# Altium integrated library Linear Technology PMIC-Switching Reg LTC1174-LTC3901.IntLib: 2647 symbols (part 227 of 310)
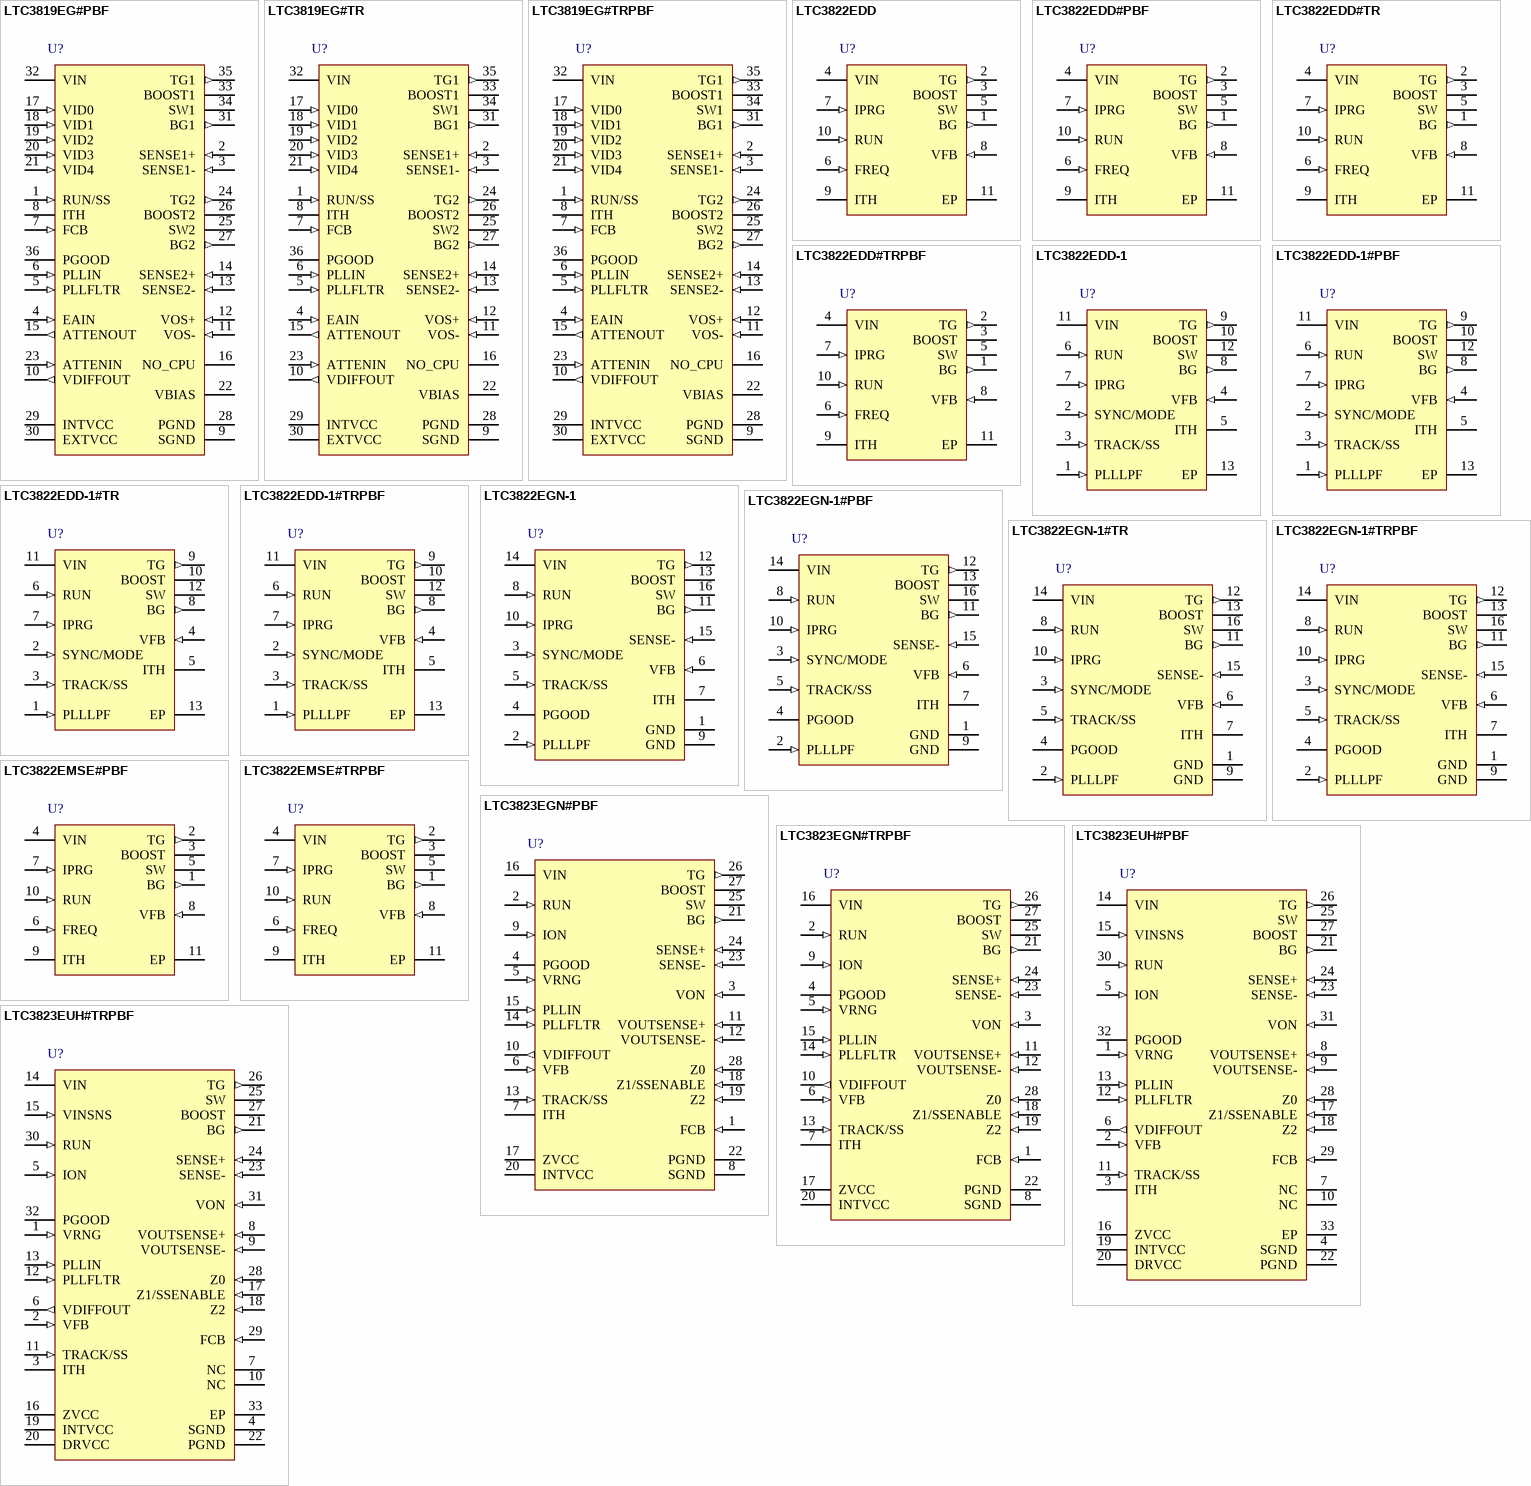
[diagram p249: symbols LTC3819EG#PBF to LTC3823EUH#TRPBF]

## LTC3819EG#TR
designator U?
2-Phase, High Efficiency, Step-Down Controller for Sun Server CPUs, 36-pin SOP (G-36), -40 to 85 degC, Tape and Reel; Manufacturer: Linear Technology; PartNumber: LTC3819EG#TR; Number of Outputs: 1; PackageReference: G-36; PackageDescription: 36-Pin Plastic SSOP, Body 12.8 x 5.3 mm, Pitch 0.65 mm; RoHS: FALSE
footprint LT-G-36_N (SOP, 36-Leads, Body 13.1x5.6mm, Pitch 0.65mm, IPC Medium Density)
footprint LT-G-36_L (SOP, 36-Leads, Body 13.1x5.6mm, Pitch 0.65mm, IPC High Density)
footprint LT-G-36_M (SOP, 36-Leads, Body 13.1x5.6mm, Pitch 0.65mm, IPC Low Density)
pins: 1 RUN/SS (in) "Combination of Soft-Start, Run Control Input and Short-Circuit Detection Timer. A capacitor to ground at this pin sets the ramp time to full current output. Forcing this pin below 0.8V causes the IC to shut down all internal (See Datasheet)", 2 SENSE1+ (in) "The (+) Input to Each Differential Current Comparator. The ITH pin voltage and built-in offsets between SENSE-  and SENSE+  pins in conjunction with RSENSE set the current trip threshold.", 3 SENSE1- (in) "The (-) Input to the Differential Current Comparators.", 4 EAIN (in) "Input to the error amplifier that compares the feedback voltage to the internal 0.6V reference voltage. This pin is normally connected to a resistive divider from the output of the differential amplifier (DIFFOUT).", 5 PLLFLTR (in) "The phase-locked loop’s lowpass filter is tied to this pin. Alternatively, this pin can be driven with an AC or DC voltage source to vary the frequency of the internal oscillator. Do not apply voltage to this pin prior t(See Datasheet)", 6 PLLIN (in) "External Synchronization Input to Phase Detector. This pin is internally terminated to SGND with 50k ohm. The phase-locked loop will force the rising top gate signal of controller 1 to be synchronized with the rising edge of (See Datasheet)", 7 FCB (in) "Forced Continuous Control Input. This input acts on both output stages. Pulling this pin below 0.6V will force continuous synchronous operation. Do not leave this pin floating without a decoupling capacitor.", 8 ITH "Error Amplifier Output and Switching Regulator Compensation Point. Both current comparator’s thresholds increase with this control voltage. The normal voltage range of this pin is from 0V to 2.4V", 9 SGND (power) "Signal Ground. This pin is common to both controllers. Route separately to the PGND pin.", 10 VDIFFOUT (out) "Output of a Differential Amplifier. This pin provides true remote output voltage sensing. VDIFFOUT normally drives an external resistive divider that sets the output voltage.", 11 VOS- (in) "Inputs toan Operational Amplifier. Internal precision resistors configure it as a differential amplifier whose output is VDIFFOUT.", 12 VOS+ (in) "Inputs toan Operational Amplifier. Internal precision resistors configure it as a differential amplifier whose output is VDIFFOUT.", 13 SENSE2- (in) "The (-) Input to the Differential Current Comparators.", 14 SENSE2+ (in) "The (+) Input to Each Differential Current Comparator. The ITH pin voltage and built-in offsets between SENSE-  and SENSE+  pins in conjunction with RSENSE set the current trip threshold.", 15 ATTENOUT (out) "Voltage Feedback Signal Resistively Divided According to the VID Programming Code.", 16 NO_CPU (oc) "Open-Drain Logic Output. NO_CPU is pulled to ground if VID0 to VID3 are all high.", 17 VID0 (in) "VID Control Logic Input Pins.", 18 VID1 (in) "VID Control Logic Input Pins.", 19 VID2 (in) "VID Control Logic Input Pins.", 20 VID3 (in) "VID Control Logic Input Pins.", 21 VID4 (in) "VID Control Logic Input Pins.", 22 VBIAS (power) "Supply Pin for the VID Control Circuit.", 23 ATTENIN (in) "The Input to the VID Controlled Resistive Divider.", 24 TG2 (out), 25 SW2 "Switch Node Connections to Inductors. Voltage swing at these pins is from a Schottky diode (external) voltage drop below ground to VIN.", 26 BOOST2 "Bootstrapped Supplies to the Topside Floating Drivers. External capacitors are connected between the BOOST and SW pins, and Schottky diodes are connected between the BOOST and INTVCC pins.", 27 BG2 (out) "High Current Gate Drives for Bottom N-Channel MOSFETS. Voltage swing at these pins is from ground to INTVCC.", 28 PGND (power) "Driver Power Ground. Connect to sources of bottom N-channel MOSFETS and the (-) terminals of CIN.", 29 INTVCC (power) "Output of the Internal 5V Linear Low Dropout Regulator and the EXTVCC Switch. The driver and control circuits are powered from this voltage source. Decouple to power ground with a 1uF ceramic capacitor placed directly (See Datasheet)", 30 EXTVCC (power) "External Power Input to an Internal Switch. This switch closes and supplies INTVCC, bypassing the internallow dropout regulator whenever EXTVCC is higher than 4.7V. See EXTVCC Connection in the Applications Information (See Datasheet)", 31 BG1 (out) "High Current Gate Drives for Bottom N-Channel MOSFETS. Voltage swing at these pins is from ground to INTVCC.", 32 VIN (power) "Main Supply Pin. Should be closely decoupled to the IC’s signal ground pin.", 33 BOOST1 "Bootstrapped Supplies to the Topside Floating Drivers. External capacitors are connected between the BOOST and SW pins, and Schottky diodes are connected between the BOOST and INTVCC pins.", 34 SW1 "Switch Node Connections to Inductors. Voltage swing at these pins is from a Schottky diode (external) voltage drop below ground to VIN.", 35 TG1 (out), 36 PGOOD (oc) "Open-Drain Logic Output. PGOOD is pulled to ground when the voltage on the EAIN pin is not within +/-10% of its set point."

## LTC3819EG#TRPBF
designator U?
2-Phase, High Efficiency, Step-Down Controller for Sun Server CPUs, 36-pin SOP (G-36), -40 to 85 degC, Pb-Free, Tape and Reel; Manufacturer: Linear Technology; PartNumber: LTC3819EG#TRPBF; Number of Outputs: 1; PackageReference: G-36; PackageDescription: 36-Pin Plastic SSOP, Body 12.8 x 5.3 mm, Pitch 0.65 mm; Supplier 1: Digi-Key; Supplier Part Number 1: LTC3819EG#TRPBF-ND; RoHS: TRUE
footprint LT-G-36_N (SOP, 36-Leads, Body 13.1x5.6mm, Pitch 0.65mm, IPC Medium Density)
footprint LT-G-36_L (SOP, 36-Leads, Body 13.1x5.6mm, Pitch 0.65mm, IPC High Density)
footprint LT-G-36_M (SOP, 36-Leads, Body 13.1x5.6mm, Pitch 0.65mm, IPC Low Density)
pins: 1 RUN/SS (in) "Combination of Soft-Start, Run Control Input and Short-Circuit Detection Timer. A capacitor to ground at this pin sets the ramp time to full current output. Forcing this pin below 0.8V causes the IC to shut down all internal (See Datasheet)", 2 SENSE1+ (in) "The (+) Input to Each Differential Current Comparator. The ITH pin voltage and built-in offsets between SENSE-  and SENSE+  pins in conjunction with RSENSE set the current trip threshold.", 3 SENSE1- (in) "The (-) Input to the Differential Current Comparators.", 4 EAIN (in) "Input to the error amplifier that compares the feedback voltage to the internal 0.6V reference voltage. This pin is normally connected to a resistive divider from the output of the differential amplifier (DIFFOUT).", 5 PLLFLTR (in) "The phase-locked loop’s lowpass filter is tied to this pin. Alternatively, this pin can be driven with an AC or DC voltage source to vary the frequency of the internal oscillator. Do not apply voltage to this pin prior t(See Datasheet)", 6 PLLIN (in) "External Synchronization Input to Phase Detector. This pin is internally terminated to SGND with 50k ohm. The phase-locked loop will force the rising top gate signal of controller 1 to be synchronized with the rising edge of (See Datasheet)", 7 FCB (in) "Forced Continuous Control Input. This input acts on both output stages. Pulling this pin below 0.6V will force continuous synchronous operation. Do not leave this pin floating without a decoupling capacitor.", 8 ITH "Error Amplifier Output and Switching Regulator Compensation Point. Both current comparator’s thresholds increase with this control voltage. The normal voltage range of this pin is from 0V to 2.4V", 9 SGND (power) "Signal Ground. This pin is common to both controllers. Route separately to the PGND pin.", 10 VDIFFOUT (out) "Output of a Differential Amplifier. This pin provides true remote output voltage sensing. VDIFFOUT normally drives an external resistive divider that sets the output voltage.", 11 VOS- (in) "Inputs toan Operational Amplifier. Internal precision resistors configure it as a differential amplifier whose output is VDIFFOUT.", 12 VOS+ (in) "Inputs toan Operational Amplifier. Internal precision resistors configure it as a differential amplifier whose output is VDIFFOUT.", 13 SENSE2- (in) "The (-) Input to the Differential Current Comparators.", 14 SENSE2+ (in) "The (+) Input to Each Differential Current Comparator. The ITH pin voltage and built-in offsets between SENSE-  and SENSE+  pins in conjunction with RSENSE set the current trip threshold.", 15 ATTENOUT (out) "Voltage Feedback Signal Resistively Divided According to the VID Programming Code.", 16 NO_CPU (oc) "Open-Drain Logic Output. NO_CPU is pulled to ground if VID0 to VID3 are all high.", 17 VID0 (in) "VID Control Logic Input Pins.", 18 VID1 (in) "VID Control Logic Input Pins.", 19 VID2 (in) "VID Control Logic Input Pins.", 20 VID3 (in) "VID Control Logic Input Pins.", 21 VID4 (in) "VID Control Logic Input Pins.", 22 VBIAS (power) "Supply Pin for the VID Control Circuit.", 23 ATTENIN (in) "The Input to the VID Controlled Resistive Divider.", 24 TG2 (out), 25 SW2 "Switch Node Connections to Inductors. Voltage swing at these pins is from a Schottky diode (external) voltage drop below ground to VIN.", 26 BOOST2 "Bootstrapped Supplies to the Topside Floating Drivers. External capacitors are connected between the BOOST and SW pins, and Schottky diodes are connected between the BOOST and INTVCC pins.", 27 BG2 (out) "High Current Gate Drives for Bottom N-Channel MOSFETS. Voltage swing at these pins is from ground to INTVCC.", 28 PGND (power) "Driver Power Ground. Connect to sources of bottom N-channel MOSFETS and the (-) terminals of CIN.", 29 INTVCC (power) "Output of the Internal 5V Linear Low Dropout Regulator and the EXTVCC Switch. The driver and control circuits are powered from this voltage source. Decouple to power ground with a 1uF ceramic capacitor placed directly (See Datasheet)", 30 EXTVCC (power) "External Power Input to an Internal Switch. This switch closes and supplies INTVCC, bypassing the internallow dropout regulator whenever EXTVCC is higher than 4.7V. See EXTVCC Connection in the Applications Information (See Datasheet)", 31 BG1 (out) "High Current Gate Drives for Bottom N-Channel MOSFETS. Voltage swing at these pins is from ground to INTVCC.", 32 VIN (power) "Main Supply Pin. Should be closely decoupled to the IC’s signal ground pin.", 33 BOOST1 "Bootstrapped Supplies to the Topside Floating Drivers. External capacitors are connected between the BOOST and SW pins, and Schottky diodes are connected between the BOOST and INTVCC pins.", 34 SW1 "Switch Node Connections to Inductors. Voltage swing at these pins is from a Schottky diode (external) voltage drop below ground to VIN.", 35 TG1 (out), 36 PGOOD (oc) "Open-Drain Logic Output. PGOOD is pulled to ground when the voltage on the EAIN pin is not within +/-10% of its set point."

## LTC3822EDD
designator U?
No Rsense, Low Input Voltage, Synchronous Step-Down DC/DC Controller, 10-pin SON (DD-10), -40 to 85 degC; Manufacturer: Linear Technology; PartNumber: LTC3822EDD; Number of Outputs: 1; PackageReference: DD-10; PackageDescription: 10-Pin Plastic DFN, Body 3 x 3 mm, Pitch 0.5 mm; RoHS: FALSE; Code_JEDEC: MO-229
footprint LT-DD-10_V (SON, 10-Leads, Body 3x3mm, Pitch 0.5mm, Thermal Pad 2.38x1.65mm)
pins: 1 BG (out) "Bottom Gate Driver Output. This pin drives the gate of the external bottom MOSFET. This pin has an output swing from GND to BOOST.", 2 TG (out) "Top Gate Driver Output. This pin drives the gate of the external topside MOSFET. This pin has an output swing from GND to BOOST.", 3 BOOST "Positive Supply Pin for the Gate Driver Circuitry. A bootstrapped capacitor, charged through an external Schottky diode from VIN, is connected between the BOOST and SW pins. Voltage swing at the BOOST pin is from VIN to 2VIN.(See Datasheet)", 4 VIN (power) "This pin powers the control circuitry and serves as the positive input to the differential current comparator. Pin 4 must not be locally decoupled with a capacitor as it is also the positive terminal for current sense.", 5 SW "Switch Node Connection to Inductor. This pin is also the negative input to the differential current comparator and an input to the reverse current comparator. Normally this pin is connected to the source of the external (See Datasheet)", 6 FREQ (in) "This pin serves as the frequency select input. Tying this pin to GND selects 300kHz operation; tying this pin to VIN selects 750kHz operation. Floating this pin selects 550kHz operation.", 7 IPRG (in) "Selects maximum peak sense voltage between the VIN and SW pins (i.e., the maximum allowed drop across the external top-side MOSFET). Tie to VIN, GND or float to select 200mV, 82mV or 120mV respectively.", 8 VFB (in) "Feedback Pin. This pin receives the remotely sensed feedback voltage from an external resistor divider across the output.", 9 ITH "Current Threshold and Error Amplifier Compensation Point. Nominal operating range on this pin is from 0.7V to 2V. The voltage on this pin determines the threshold of the main current comparator.", 10 RUN (in) "Run Control Input. Forcing this pin below 1.1V shuts down the chip. Driving this pin to VIN or releasing this pin enables the chip to start-up with the internal soft-start", 11 EP (power) "Exposed Pad. The exposed pad is ground and must be soldered to the PCB ground for electrical contact and optimal thermal performance."

## LTC3822EDD#PBF
designator U?
No Rsense, Low Input Voltage, Synchronous Step-Down DC/DC Controller, 10-pin SON (DD-10), -40 to 85 degC, Pb-Free; Manufacturer: Linear Technology; PartNumber: LTC3822EDD#PBF; Number of Outputs: 1; PackageReference: DD-10; PackageDescription: 10-Pin Plastic DFN, Body 3 x 3 mm, Pitch 0.5 mm; Supplier 1: Digi-Key; Supplier Part Number 1: LTC3822EDD#PBF-ND; RoHS: TRUE; Code_JEDEC: MO-229
footprint LT-DD-10_V (SON, 10-Leads, Body 3x3mm, Pitch 0.5mm, Thermal Pad 2.38x1.65mm)
pins: 1 BG (out) "Bottom Gate Driver Output. This pin drives the gate of the external bottom MOSFET. This pin has an output swing from GND to BOOST.", 2 TG (out) "Top Gate Driver Output. This pin drives the gate of the external topside MOSFET. This pin has an output swing from GND to BOOST.", 3 BOOST "Positive Supply Pin for the Gate Driver Circuitry. A bootstrapped capacitor, charged through an external Schottky diode from VIN, is connected between the BOOST and SW pins. Voltage swing at the BOOST pin is from VIN to 2VIN.(See Datasheet)", 4 VIN (power) "This pin powers the control circuitry and serves as the positive input to the differential current comparator. Pin 4 must not be locally decoupled with a capacitor as it is also the positive terminal for current sense.", 5 SW "Switch Node Connection to Inductor. This pin is also the negative input to the differential current comparator and an input to the reverse current comparator. Normally this pin is connected to the source of the external (See Datasheet)", 6 FREQ (in) "This pin serves as the frequency select input. Tying this pin to GND selects 300kHz operation; tying this pin to VIN selects 750kHz operation. Floating this pin selects 550kHz operation.", 7 IPRG (in) "Selects maximum peak sense voltage between the VIN and SW pins (i.e., the maximum allowed drop across the external top-side MOSFET). Tie to VIN, GND or float to select 200mV, 82mV or 120mV respectively.", 8 VFB (in) "Feedback Pin. This pin receives the remotely sensed feedback voltage from an external resistor divider across the output.", 9 ITH "Current Threshold and Error Amplifier Compensation Point. Nominal operating range on this pin is from 0.7V to 2V. The voltage on this pin determines the threshold of the main current comparator.", 10 RUN (in) "Run Control Input. Forcing this pin below 1.1V shuts down the chip. Driving this pin to VIN or releasing this pin enables the chip to start-up with the internal soft-start", 11 EP (power) "Exposed Pad. The exposed pad is ground and must be soldered to the PCB ground for electrical contact and optimal thermal performance."

## LTC3822EDD#TR
designator U?
No Rsense, Low Input Voltage, Synchronous Step-Down DC/DC Controller, 10-pin SON (DD-10), -40 to 85 degC, Tape and Reel; Manufacturer: Linear Technology; PartNumber: LTC3822EDD#TR; Number of Outputs: 1; PackageReference: DD-10; PackageDescription: 10-Pin Plastic DFN, Body 3 x 3 mm, Pitch 0.5 mm; RoHS: FALSE; Code_JEDEC: MO-229
footprint LT-DD-10_V (SON, 10-Leads, Body 3x3mm, Pitch 0.5mm, Thermal Pad 2.38x1.65mm)
pins: 1 BG (out) "Bottom Gate Driver Output. This pin drives the gate of the external bottom MOSFET. This pin has an output swing from GND to BOOST.", 2 TG (out) "Top Gate Driver Output. This pin drives the gate of the external topside MOSFET. This pin has an output swing from GND to BOOST.", 3 BOOST "Positive Supply Pin for the Gate Driver Circuitry. A bootstrapped capacitor, charged through an external Schottky diode from VIN, is connected between the BOOST and SW pins. Voltage swing at the BOOST pin is from VIN to 2VIN.(See Datasheet)", 4 VIN (power) "This pin powers the control circuitry and serves as the positive input to the differential current comparator. Pin 4 must not be locally decoupled with a capacitor as it is also the positive terminal for current sense.", 5 SW "Switch Node Connection to Inductor. This pin is also the negative input to the differential current comparator and an input to the reverse current comparator. Normally this pin is connected to the source of the external (See Datasheet)", 6 FREQ (in) "This pin serves as the frequency select input. Tying this pin to GND selects 300kHz operation; tying this pin to VIN selects 750kHz operation. Floating this pin selects 550kHz operation.", 7 IPRG (in) "Selects maximum peak sense voltage between the VIN and SW pins (i.e., the maximum allowed drop across the external top-side MOSFET). Tie to VIN, GND or float to select 200mV, 82mV or 120mV respectively.", 8 VFB (in) "Feedback Pin. This pin receives the remotely sensed feedback voltage from an external resistor divider across the output.", 9 ITH "Current Threshold and Error Amplifier Compensation Point. Nominal operating range on this pin is from 0.7V to 2V. The voltage on this pin determines the threshold of the main current comparator.", 10 RUN (in) "Run Control Input. Forcing this pin below 1.1V shuts down the chip. Driving this pin to VIN or releasing this pin enables the chip to start-up with the internal soft-start", 11 EP (power) "Exposed Pad. The exposed pad is ground and must be soldered to the PCB ground for electrical contact and optimal thermal performance."

## LTC3822EDD#TRPBF
designator U?
No Rsense, Low Input Voltage, Synchronous Step-Down DC/DC Controller, 10-pin SON (DD-10), -40 to 85 degC, Pb-Free, Tape and Reel; Manufacturer: Linear Technology; PartNumber: LTC3822EDD#TRPBF; Number of Outputs: 1; PackageReference: DD-10; PackageDescription: 10-Pin Plastic DFN, Body 3 x 3 mm, Pitch 0.5 mm; Supplier 1: Digi-Key; Supplier Part Number 1: LTC3822EDD#TRPBF-ND; RoHS: TRUE; Code_JEDEC: MO-229
footprint LT-DD-10_V (SON, 10-Leads, Body 3x3mm, Pitch 0.5mm, Thermal Pad 2.38x1.65mm)
pins: 1 BG (out) "Bottom Gate Driver Output. This pin drives the gate of the external bottom MOSFET. This pin has an output swing from GND to BOOST.", 2 TG (out) "Top Gate Driver Output. This pin drives the gate of the external topside MOSFET. This pin has an output swing from GND to BOOST.", 3 BOOST "Positive Supply Pin for the Gate Driver Circuitry. A bootstrapped capacitor, charged through an external Schottky diode from VIN, is connected between the BOOST and SW pins. Voltage swing at the BOOST pin is from VIN to 2VIN.(See Datasheet)", 4 VIN (power) "This pin powers the control circuitry and serves as the positive input to the differential current comparator. Pin 4 must not be locally decoupled with a capacitor as it is also the positive terminal for current sense.", 5 SW "Switch Node Connection to Inductor. This pin is also the negative input to the differential current comparator and an input to the reverse current comparator. Normally this pin is connected to the source of the external (See Datasheet)", 6 FREQ (in) "This pin serves as the frequency select input. Tying this pin to GND selects 300kHz operation; tying this pin to VIN selects 750kHz operation. Floating this pin selects 550kHz operation.", 7 IPRG (in) "Selects maximum peak sense voltage between the VIN and SW pins (i.e., the maximum allowed drop across the external top-side MOSFET). Tie to VIN, GND or float to select 200mV, 82mV or 120mV respectively.", 8 VFB (in) "Feedback Pin. This pin receives the remotely sensed feedback voltage from an external resistor divider across the output.", 9 ITH "Current Threshold and Error Amplifier Compensation Point. Nominal operating range on this pin is from 0.7V to 2V. The voltage on this pin determines the threshold of the main current comparator.", 10 RUN (in) "Run Control Input. Forcing this pin below 1.1V shuts down the chip. Driving this pin to VIN or releasing this pin enables the chip to start-up with the internal soft-start", 11 EP (power) "Exposed Pad. The exposed pad is ground and must be soldered to the PCB ground for electrical contact and optimal thermal performance."

## LTC3822EDD-1
designator U?
No Rsense, Low Input Voltage, Synchronous Step-Down DC/DC Controller, 12-pin SON (DD-12), -40 to 85 degC; Manufacturer: Linear Technology; PartNumber: LTC3822EDD-1; Number of Outputs: 1; PackageReference: DD-12; PackageDescription: 12-Pin Plastic DFN, Body 3 x 3 mm, Pitch 0.45 mm; RoHS: FALSE
footprint LT-DD-12_V (SON, 12-Leads, Body 3x3mm, Pitch 0.45mm, Thermal Pad 2.38x1.65mm)
pins: 1 PLLLPF (in) "This pin serves as the frequency select input and PLL lowpass filter compensation point. When SYNC/MODE has a DC voltage on it, tying this pin to GND selects 300kHz operation; tying this pin to VIN selects 750kHz operation. (See Datasheet)", 2 SYNC/MODE (in) "This pin performs two functions:1) external clock synchronization input for phaselocked loop and 2) Burst Mode, pulse skipping or forced continuous mode select. Applying a clock with frequency between 250kHz and 750kHz (See Datasheet)", 3 TRACK/SS (in) "Tracking Input for the Controller or Optional External Soft-Start Input. This pin allows the start-up of VOUT to “track?the external voltage at this pin using an external resistor divider. The LTC3822-1 regulates (See Datasheet)", 4 VFB (in) "Feedback Pin. This pin receives the remotely sensed feedback voltage for the controller from an external resistor divider across the output.", 5 ITH "Current Threshold and Error Amplifier Compensation Point. Nominal operating range on this pin is from 0.7V to 2V. The voltage on this pin determines the threshold of the main current comparator.", 6 RUN (in) "Run Control Input. Forcing this pin below 1.1V shuts down the chip. Driving this pin to VIN or releasing this pin enables the chip to start-up.", 7 IPRG (in) "Three-State Pin to Select the Maximum Peak Sense Voltage Threshold. This pin selects the maximum allowed voltage drop between the VIN and SW pins (i.e., the maximum allowed drop across the external topside MOSFET). Tie to (See Datasheet)", 8 BG (out) "Bottom Gate Driver Output. This pin drives the gate of the external bottom-side MOSFET. This pin has an output swing from GND to BOOST.", 9 TG (out) "Top Gate Driver Output. This pin drives the gate of the external topside MOSFET. This pin has an output swing from GND to BOOST.", 10 BOOST "Positive Supply Pin for the Gate Driver Circuitry. A bootstrapped capacitor, charged with an external Schottky diode and a boost voltage source, is connected between the BOOST and SW pins. Voltage swing at the BOOST pin is (See Datasheet)", 11 VIN (power) "This pin powers the control circuitry and serves as the positive input to the differential current comparator.", 12 SW "Switch Node Connection to Inductor. This pin is also the negative input to the differential current comparator(DFN only) and an input to the reverse current comparator. Normally this pin is connected to the source of the (See Datasheet)", 13 EP (power) "Ground. The Exposed Pad is ground and must be soldered to the PCB ground for electrical contact and optimal thermal performance."

## LTC3822EDD-1#PBF
designator U?
No Rsense, Low Input Voltage, Synchronous Step-Down DC/DC Controller, 12-pin SON (DD-12), -40 to 85 degC, Pb-Free; Manufacturer: Linear Technology; PartNumber: LTC3822EDD-1#PBF; Number of Outputs: 1; PackageReference: DD-12; PackageDescription: 12-Pin Plastic DFN, Body 3 x 3 mm, Pitch 0.45 mm; Supplier 1: Digi-Key; Supplier Part Number 1: LTC3822EDD-1#PBF-ND; RoHS: TRUE
footprint LT-DD-12_V (SON, 12-Leads, Body 3x3mm, Pitch 0.45mm, Thermal Pad 2.38x1.65mm)
pins: 1 PLLLPF (in) "This pin serves as the frequency select input and PLL lowpass filter compensation point. When SYNC/MODE has a DC voltage on it, tying this pin to GND selects 300kHz operation; tying this pin to VIN selects 750kHz operation. (See Datasheet)", 2 SYNC/MODE (in) "This pin performs two functions:1) external clock synchronization input for phaselocked loop and 2) Burst Mode, pulse skipping or forced continuous mode select. Applying a clock with frequency between 250kHz and 750kHz (See Datasheet)", 3 TRACK/SS (in) "Tracking Input for the Controller or Optional External Soft-Start Input. This pin allows the start-up of VOUT to “track?the external voltage at this pin using an external resistor divider. The LTC3822-1 regulates (See Datasheet)", 4 VFB (in) "Feedback Pin. This pin receives the remotely sensed feedback voltage for the controller from an external resistor divider across the output.", 5 ITH "Current Threshold and Error Amplifier Compensation Point. Nominal operating range on this pin is from 0.7V to 2V. The voltage on this pin determines the threshold of the main current comparator.", 6 RUN (in) "Run Control Input. Forcing this pin below 1.1V shuts down the chip. Driving this pin to VIN or releasing this pin enables the chip to start-up.", 7 IPRG (in) "Three-State Pin to Select the Maximum Peak Sense Voltage Threshold. This pin selects the maximum allowed voltage drop between the VIN and SW pins (i.e., the maximum allowed drop across the external topside MOSFET). Tie to (See Datasheet)", 8 BG (out) "Bottom Gate Driver Output. This pin drives the gate of the external bottom-side MOSFET. This pin has an output swing from GND to BOOST.", 9 TG (out) "Top Gate Driver Output. This pin drives the gate of the external topside MOSFET. This pin has an output swing from GND to BOOST.", 10 BOOST "Positive Supply Pin for the Gate Driver Circuitry. A bootstrapped capacitor, charged with an external Schottky diode and a boost voltage source, is connected between the BOOST and SW pins. Voltage swing at the BOOST pin is (See Datasheet)", 11 VIN (power) "This pin powers the control circuitry and serves as the positive input to the differential current comparator.", 12 SW "Switch Node Connection to Inductor. This pin is also the negative input to the differential current comparator(DFN only) and an input to the reverse current comparator. Normally this pin is connected to the source of the (See Datasheet)", 13 EP (power) "Ground. The Exposed Pad is ground and must be soldered to the PCB ground for electrical contact and optimal thermal performance."

## LTC3822EDD-1#TR
designator U?
No Rsense, Low Input Voltage, Synchronous Step-Down DC/DC Controller, 12-pin SON (DD-12), -40 to 85 degC, Tape and Reel; Manufacturer: Linear Technology; PartNumber: LTC3822EDD-1#TR; Number of Outputs: 1; PackageReference: DD-12; PackageDescription: 12-Pin Plastic DFN, Body 3 x 3 mm, Pitch 0.45 mm; RoHS: FALSE
footprint LT-DD-12_V (SON, 12-Leads, Body 3x3mm, Pitch 0.45mm, Thermal Pad 2.38x1.65mm)
pins: 1 PLLLPF (in) "This pin serves as the frequency select input and PLL lowpass filter compensation point. When SYNC/MODE has a DC voltage on it, tying this pin to GND selects 300kHz operation; tying this pin to VIN selects 750kHz operation. (See Datasheet)", 2 SYNC/MODE (in) "This pin performs two functions:1) external clock synchronization input for phaselocked loop and 2) Burst Mode, pulse skipping or forced continuous mode select. Applying a clock with frequency between 250kHz and 750kHz (See Datasheet)", 3 TRACK/SS (in) "Tracking Input for the Controller or Optional External Soft-Start Input. This pin allows the start-up of VOUT to “track?the external voltage at this pin using an external resistor divider. The LTC3822-1 regulates (See Datasheet)", 4 VFB (in) "Feedback Pin. This pin receives the remotely sensed feedback voltage for the controller from an external resistor divider across the output.", 5 ITH "Current Threshold and Error Amplifier Compensation Point. Nominal operating range on this pin is from 0.7V to 2V. The voltage on this pin determines the threshold of the main current comparator.", 6 RUN (in) "Run Control Input. Forcing this pin below 1.1V shuts down the chip. Driving this pin to VIN or releasing this pin enables the chip to start-up.", 7 IPRG (in) "Three-State Pin to Select the Maximum Peak Sense Voltage Threshold. This pin selects the maximum allowed voltage drop between the VIN and SW pins (i.e., the maximum allowed drop across the external topside MOSFET). Tie to (See Datasheet)", 8 BG (out) "Bottom Gate Driver Output. This pin drives the gate of the external bottom-side MOSFET. This pin has an output swing from GND to BOOST.", 9 TG (out) "Top Gate Driver Output. This pin drives the gate of the external topside MOSFET. This pin has an output swing from GND to BOOST.", 10 BOOST "Positive Supply Pin for the Gate Driver Circuitry. A bootstrapped capacitor, charged with an external Schottky diode and a boost voltage source, is connected between the BOOST and SW pins. Voltage swing at the BOOST pin is (See Datasheet)", 11 VIN (power) "This pin powers the control circuitry and serves as the positive input to the differential current comparator.", 12 SW "Switch Node Connection to Inductor. This pin is also the negative input to the differential current comparator(DFN only) and an input to the reverse current comparator. Normally this pin is connected to the source of the (See Datasheet)", 13 EP (power) "Ground. The Exposed Pad is ground and must be soldered to the PCB ground for electrical contact and optimal thermal performance."

## LTC3822EDD-1#TRPBF
designator U?
No Rsense, Low Input Voltage, Synchronous Step-Down DC/DC Controller, 12-pin SON (DD-12), -40 to 85 degC, Pb-Free, Tape and Reel; Manufacturer: Linear Technology; PartNumber: LTC3822EDD-1#TRPBF; Number of Outputs: 1; PackageReference: DD-12; PackageDescription: 12-Pin Plastic DFN, Body 3 x 3 mm, Pitch 0.45 mm; Supplier 1: Digi-Key; Supplier Part Number 1: LTC3822EDD-1#TRPBF-ND; RoHS: TRUE
footprint LT-DD-12_V (SON, 12-Leads, Body 3x3mm, Pitch 0.45mm, Thermal Pad 2.38x1.65mm)
pins: 1 PLLLPF (in) "This pin serves as the frequency select input and PLL lowpass filter compensation point. When SYNC/MODE has a DC voltage on it, tying this pin to GND selects 300kHz operation; tying this pin to VIN selects 750kHz operation. (See Datasheet)", 2 SYNC/MODE (in) "This pin performs two functions:1) external clock synchronization input for phaselocked loop and 2) Burst Mode, pulse skipping or forced continuous mode select. Applying a clock with frequency between 250kHz and 750kHz (See Datasheet)", 3 TRACK/SS (in) "Tracking Input for the Controller or Optional External Soft-Start Input. This pin allows the start-up of VOUT to “track?the external voltage at this pin using an external resistor divider. The LTC3822-1 regulates (See Datasheet)", 4 VFB (in) "Feedback Pin. This pin receives the remotely sensed feedback voltage for the controller from an external resistor divider across the output.", 5 ITH "Current Threshold and Error Amplifier Compensation Point. Nominal operating range on this pin is from 0.7V to 2V. The voltage on this pin determines the threshold of the main current comparator.", 6 RUN (in) "Run Control Input. Forcing this pin below 1.1V shuts down the chip. Driving this pin to VIN or releasing this pin enables the chip to start-up.", 7 IPRG (in) "Three-State Pin to Select the Maximum Peak Sense Voltage Threshold. This pin selects the maximum allowed voltage drop between the VIN and SW pins (i.e., the maximum allowed drop across the external topside MOSFET). Tie to (See Datasheet)", 8 BG (out) "Bottom Gate Driver Output. This pin drives the gate of the external bottom-side MOSFET. This pin has an output swing from GND to BOOST.", 9 TG (out) "Top Gate Driver Output. This pin drives the gate of the external topside MOSFET. This pin has an output swing from GND to BOOST.", 10 BOOST "Positive Supply Pin for the Gate Driver Circuitry. A bootstrapped capacitor, charged with an external Schottky diode and a boost voltage source, is connected between the BOOST and SW pins. Voltage swing at the BOOST pin is (See Datasheet)", 11 VIN (power) "This pin powers the control circuitry and serves as the positive input to the differential current comparator.", 12 SW "Switch Node Connection to Inductor. This pin is also the negative input to the differential current comparator(DFN only) and an input to the reverse current comparator. Normally this pin is connected to the source of the (See Datasheet)", 13 EP (power) "Ground. The Exposed Pad is ground and must be soldered to the PCB ground for electrical contact and optimal thermal performance."

## LTC3822EGN-1
designator U?
No Rsense, Low Input Voltage, Synchronous Step-Down DC/DC Controller, 16-pin SOP (GN-16), -40 to 85 degC; Manufacturer: Linear Technology; PartNumber: LTC3822EGN-1; Number of Outputs: 1; PackageReference: GN-16; PackageDescription: 16-Pin Plastic SSOP, Body 4.9 x 3.9 mm, Pitch 0.635 mm; RoHS: FALSE
footprint LT-GN-16_N (SOP, 16-Leads, Body 5x4mm, Pitch 0.635mm, IPC Medium Density)
footprint LT-GN-16_L (SOP, 16-Leads, Body 5x4mm, Pitch 0.635mm, IPC High Density)
footprint LT-GN-16_M (SOP, 16-Leads, Body 5x4mm, Pitch 0.635mm, IPC Low Density)
pins: 1 GND (power) "Ground.", 2 PLLLPF (in) "This pin serves as the frequency select input and PLL lowpass filter compensation point. When SYNC/MODE has a DC voltage on it, tying this pin  to GND selects 300kHz operation; tying this pin to VIN selects 750kHz operation. (See Datasheet)", 3 SYNC/MODE (in) "This pin performs two functions: 1) external clock synchronization input for phaselocked loop and 2) Burst Mode, pulse skipping or forced continuous mode select. Applying a clock with frequency between 250kHz and 750kHz (See Datasheet)", 4 PGOOD (oc) "Power Good Output Voltage Monitor Open-Drain Logic Output. This pin is pulled to ground when the voltage on the feedback pin VFB is not within +/-13.3% of its nominal set point", 5 TRACK/SS (in) "Tracking Input for the Controller or Optional External Soft-Start Input. This pin allows the start-up of VOUT to “track?the external voltage at this pin using an external resistor divider. The LTC3822-1 regulates (See Datasheet)", 6 VFB (in) "Feedback Pin. This pin receives the remotely sensed feedback voltage for the controller from an external resistor divider across the output.", 7 ITH "Current Threshold and Error Amplifier Compensation Point. Nominal operating range on this pin is from 0.7V to 2V. The voltage on this pin determines the threshold of the main current comparator.", 8 RUN (in) "Run Control Input. Forcing this pin below 1.1V shuts down the chip. Driving this pin to VIN or releasing this pin enables the chip to start-up.", 9 GND (power) "Ground.", 10 IPRG (in) "Three-State Pin to Select the Maximum Peak Sense Voltage Threshold. This pin selects the maximum allowed voltage drop between the VIN and SW pins (i.e., the maximum allowed drop across the external topside MOSFET). Tie to (See Datasheet)", 11 BG (out) "Bottom Gate Driver Output. This pin drives the gate of the external bottom-side MOSFET. This pin has an output swing from GND to BOOST.", 12 TG (out) "Top Gate Driver Output. This pin drives the gate of the external topside MOSFET. This pin has an output swing from GND to BOOST.", 13 BOOST "Positive Supply Pin for the Gate Driver Circuitry. A bootstrapped capacitor, charged with an external Schottky diode and a boost voltage source, is connected between the BOOST and SW pins. Voltage swing at the BOOST pin is (See Datasheet)", 14 VIN (power) "This pin powers the control circuitry and serves as the positive input to the differential current comparator.", 15 SENSE- (in) "Negative Input to the Differential Current Comparator. Normally this pin is connected to the source of the external topside MOSFET.", 16 SW "Switch Node Connection to Inductor. This pin is also the negative input to the differential current comparator(DFN only) and an input to the reverse current comparator. Normally this pin is connected to the source of the (See Datasheet)"

## LTC3822EGN-1#PBF
designator U?
No Rsense, Low Input Voltage, Synchronous Step-Down DC/DC Controller, 16-pin SOP (GN-16), -40 to 85 degC, Pb-Free; Manufacturer: Linear Technology; PartNumber: LTC3822EGN-1#PBF; Number of Outputs: 1; PackageReference: GN-16; PackageDescription: 16-Pin Plastic SSOP, Body 4.9 x 3.9 mm, Pitch 0.635 mm; Supplier 1: Digi-Key; Supplier Part Number 1: LTC3822EGN-1#PBF-ND; RoHS: TRUE
footprint LT-GN-16_N (SOP, 16-Leads, Body 5x4mm, Pitch 0.635mm, IPC Medium Density)
footprint LT-GN-16_L (SOP, 16-Leads, Body 5x4mm, Pitch 0.635mm, IPC High Density)
footprint LT-GN-16_M (SOP, 16-Leads, Body 5x4mm, Pitch 0.635mm, IPC Low Density)
pins: 1 GND (power) "Ground.", 2 PLLLPF (in) "This pin serves as the frequency select input and PLL lowpass filter compensation point. When SYNC/MODE has a DC voltage on it, tying this pin  to GND selects 300kHz operation; tying this pin to VIN selects 750kHz operation. (See Datasheet)", 3 SYNC/MODE (in) "This pin performs two functions: 1) external clock synchronization input for phaselocked loop and 2) Burst Mode, pulse skipping or forced continuous mode select. Applying a clock with frequency between 250kHz and 750kHz (See Datasheet)", 4 PGOOD (oc) "Power Good Output Voltage Monitor Open-Drain Logic Output. This pin is pulled to ground when the voltage on the feedback pin VFB is not within +/-13.3% of its nominal set point", 5 TRACK/SS (in) "Tracking Input for the Controller or Optional External Soft-Start Input. This pin allows the start-up of VOUT to “track?the external voltage at this pin using an external resistor divider. The LTC3822-1 regulates (See Datasheet)", 6 VFB (in) "Feedback Pin. This pin receives the remotely sensed feedback voltage for the controller from an external resistor divider across the output.", 7 ITH "Current Threshold and Error Amplifier Compensation Point. Nominal operating range on this pin is from 0.7V to 2V. The voltage on this pin determines the threshold of the main current comparator.", 8 RUN (in) "Run Control Input. Forcing this pin below 1.1V shuts down the chip. Driving this pin to VIN or releasing this pin enables the chip to start-up.", 9 GND (power) "Ground.", 10 IPRG (in) "Three-State Pin to Select the Maximum Peak Sense Voltage Threshold. This pin selects the maximum allowed voltage drop between the VIN and SW pins (i.e., the maximum allowed drop across the external topside MOSFET). Tie to (See Datasheet)", 11 BG (out) "Bottom Gate Driver Output. This pin drives the gate of the external bottom-side MOSFET. This pin has an output swing from GND to BOOST.", 12 TG (out) "Top Gate Driver Output. This pin drives the gate of the external topside MOSFET. This pin has an output swing from GND to BOOST.", 13 BOOST "Positive Supply Pin for the Gate Driver Circuitry. A bootstrapped capacitor, charged with an external Schottky diode and a boost voltage source, is connected between the BOOST and SW pins. Voltage swing at the BOOST pin is (See Datasheet)", 14 VIN (power) "This pin powers the control circuitry and serves as the positive input to the differential current comparator.", 15 SENSE- (in) "Negative Input to the Differential Current Comparator. Normally this pin is connected to the source of the external topside MOSFET.", 16 SW "Switch Node Connection to Inductor. This pin is also the negative input to the differential current comparator(DFN only) and an input to the reverse current comparator. Normally this pin is connected to the source of the (See Datasheet)"

## LTC3822EGN-1#TR
designator U?
No Rsense, Low Input Voltage, Synchronous Step-Down DC/DC Controller, 16-pin SOP (GN-16), -40 to 85 degC, Tape and Reel; Manufacturer: Linear Technology; PartNumber: LTC3822EGN-1#TR; Number of Outputs: 1; PackageReference: GN-16; PackageDescription: 16-Pin Plastic SSOP, Body 4.9 x 3.9 mm, Pitch 0.635 mm; RoHS: FALSE
footprint LT-GN-16_N (SOP, 16-Leads, Body 5x4mm, Pitch 0.635mm, IPC Medium Density)
footprint LT-GN-16_L (SOP, 16-Leads, Body 5x4mm, Pitch 0.635mm, IPC High Density)
footprint LT-GN-16_M (SOP, 16-Leads, Body 5x4mm, Pitch 0.635mm, IPC Low Density)
pins: 1 GND (power) "Ground.", 2 PLLLPF (in) "This pin serves as the frequency select input and PLL lowpass filter compensation point. When SYNC/MODE has a DC voltage on it, tying this pin  to GND selects 300kHz operation; tying this pin to VIN selects 750kHz operation. (See Datasheet)", 3 SYNC/MODE (in) "This pin performs two functions: 1) external clock synchronization input for phaselocked loop and 2) Burst Mode, pulse skipping or forced continuous mode select. Applying a clock with frequency between 250kHz and 750kHz (See Datasheet)", 4 PGOOD (oc) "Power Good Output Voltage Monitor Open-Drain Logic Output. This pin is pulled to ground when the voltage on the feedback pin VFB is not within +/-13.3% of its nominal set point", 5 TRACK/SS (in) "Tracking Input for the Controller or Optional External Soft-Start Input. This pin allows the start-up of VOUT to “track?the external voltage at this pin using an external resistor divider. The LTC3822-1 regulates (See Datasheet)", 6 VFB (in) "Feedback Pin. This pin receives the remotely sensed feedback voltage for the controller from an external resistor divider across the output.", 7 ITH "Current Threshold and Error Amplifier Compensation Point. Nominal operating range on this pin is from 0.7V to 2V. The voltage on this pin determines the threshold of the main current comparator.", 8 RUN (in) "Run Control Input. Forcing this pin below 1.1V shuts down the chip. Driving this pin to VIN or releasing this pin enables the chip to start-up.", 9 GND (power) "Ground.", 10 IPRG (in) "Three-State Pin to Select the Maximum Peak Sense Voltage Threshold. This pin selects the maximum allowed voltage drop between the VIN and SW pins (i.e., the maximum allowed drop across the external topside MOSFET). Tie to (See Datasheet)", 11 BG (out) "Bottom Gate Driver Output. This pin drives the gate of the external bottom-side MOSFET. This pin has an output swing from GND to BOOST.", 12 TG (out) "Top Gate Driver Output. This pin drives the gate of the external topside MOSFET. This pin has an output swing from GND to BOOST.", 13 BOOST "Positive Supply Pin for the Gate Driver Circuitry. A bootstrapped capacitor, charged with an external Schottky diode and a boost voltage source, is connected between the BOOST and SW pins. Voltage swing at the BOOST pin is (See Datasheet)", 14 VIN (power) "This pin powers the control circuitry and serves as the positive input to the differential current comparator.", 15 SENSE- (in) "Negative Input to the Differential Current Comparator. Normally this pin is connected to the source of the external topside MOSFET.", 16 SW "Switch Node Connection to Inductor. This pin is also the negative input to the differential current comparator(DFN only) and an input to the reverse current comparator. Normally this pin is connected to the source of the (See Datasheet)"

## LTC3822EGN-1#TRPBF
designator U?
No Rsense, Low Input Voltage, Synchronous Step-Down DC/DC Controller, 16-pin SOP (GN-16), -40 to 85 degC, Pb-Free, Tape and Reel; Manufacturer: Linear Technology; PartNumber: LTC3822EGN-1#TRPBF; Number of Outputs: 1; PackageReference: GN-16; PackageDescription: 16-Pin Plastic SSOP, Body 4.9 x 3.9 mm, Pitch 0.635 mm; Supplier 1: Digi-Key; Supplier Part Number 1: LTC3822EGN-1#TRPBF-ND; RoHS: TRUE
footprint LT-GN-16_N (SOP, 16-Leads, Body 5x4mm, Pitch 0.635mm, IPC Medium Density)
footprint LT-GN-16_L (SOP, 16-Leads, Body 5x4mm, Pitch 0.635mm, IPC High Density)
footprint LT-GN-16_M (SOP, 16-Leads, Body 5x4mm, Pitch 0.635mm, IPC Low Density)
pins: 1 GND (power) "Ground.", 2 PLLLPF (in) "This pin serves as the frequency select input and PLL lowpass filter compensation point. When SYNC/MODE has a DC voltage on it, tying this pin  to GND selects 300kHz operation; tying this pin to VIN selects 750kHz operation. (See Datasheet)", 3 SYNC/MODE (in) "This pin performs two functions: 1) external clock synchronization input for phaselocked loop and 2) Burst Mode, pulse skipping or forced continuous mode select. Applying a clock with frequency between 250kHz and 750kHz (See Datasheet)", 4 PGOOD (oc) "Power Good Output Voltage Monitor Open-Drain Logic Output. This pin is pulled to ground when the voltage on the feedback pin VFB is not within +/-13.3% of its nominal set point", 5 TRACK/SS (in) "Tracking Input for the Controller or Optional External Soft-Start Input. This pin allows the start-up of VOUT to “track?the external voltage at this pin using an external resistor divider. The LTC3822-1 regulates (See Datasheet)", 6 VFB (in) "Feedback Pin. This pin receives the remotely sensed feedback voltage for the controller from an external resistor divider across the output.", 7 ITH "Current Threshold and Error Amplifier Compensation Point. Nominal operating range on this pin is from 0.7V to 2V. The voltage on this pin determines the threshold of the main current comparator.", 8 RUN (in) "Run Control Input. Forcing this pin below 1.1V shuts down the chip. Driving this pin to VIN or releasing this pin enables the chip to start-up.", 9 GND (power) "Ground.", 10 IPRG (in) "Three-State Pin to Select the Maximum Peak Sense Voltage Threshold. This pin selects the maximum allowed voltage drop between the VIN and SW pins (i.e., the maximum allowed drop across the external topside MOSFET). Tie to (See Datasheet)", 11 BG (out) "Bottom Gate Driver Output. This pin drives the gate of the external bottom-side MOSFET. This pin has an output swing from GND to BOOST.", 12 TG (out) "Top Gate Driver Output. This pin drives the gate of the external topside MOSFET. This pin has an output swing from GND to BOOST.", 13 BOOST "Positive Supply Pin for the Gate Driver Circuitry. A bootstrapped capacitor, charged with an external Schottky diode and a boost voltage source, is connected between the BOOST and SW pins. Voltage swing at the BOOST pin is (See Datasheet)", 14 VIN (power) "This pin powers the control circuitry and serves as the positive input to the differential current comparator.", 15 SENSE- (in) "Negative Input to the Differential Current Comparator. Normally this pin is connected to the source of the external topside MOSFET.", 16 SW "Switch Node Connection to Inductor. This pin is also the negative input to the differential current comparator(DFN only) and an input to the reverse current comparator. Normally this pin is connected to the source of the (See Datasheet)"